# Altium footprint library axsem_connectors_v1-13.PCBLIB: 46 footprints (part 1 of 3)
Each footprint in its own frame and in the unit in brackets; x right, y up, seen from the top. Pads: shape width x height; smd on the part's side, far side on the other; paste and mask are expansions set on the pad; w line width, h text height; cw(c..) or ccw(c..) is an arc to the next point about the centre after c.
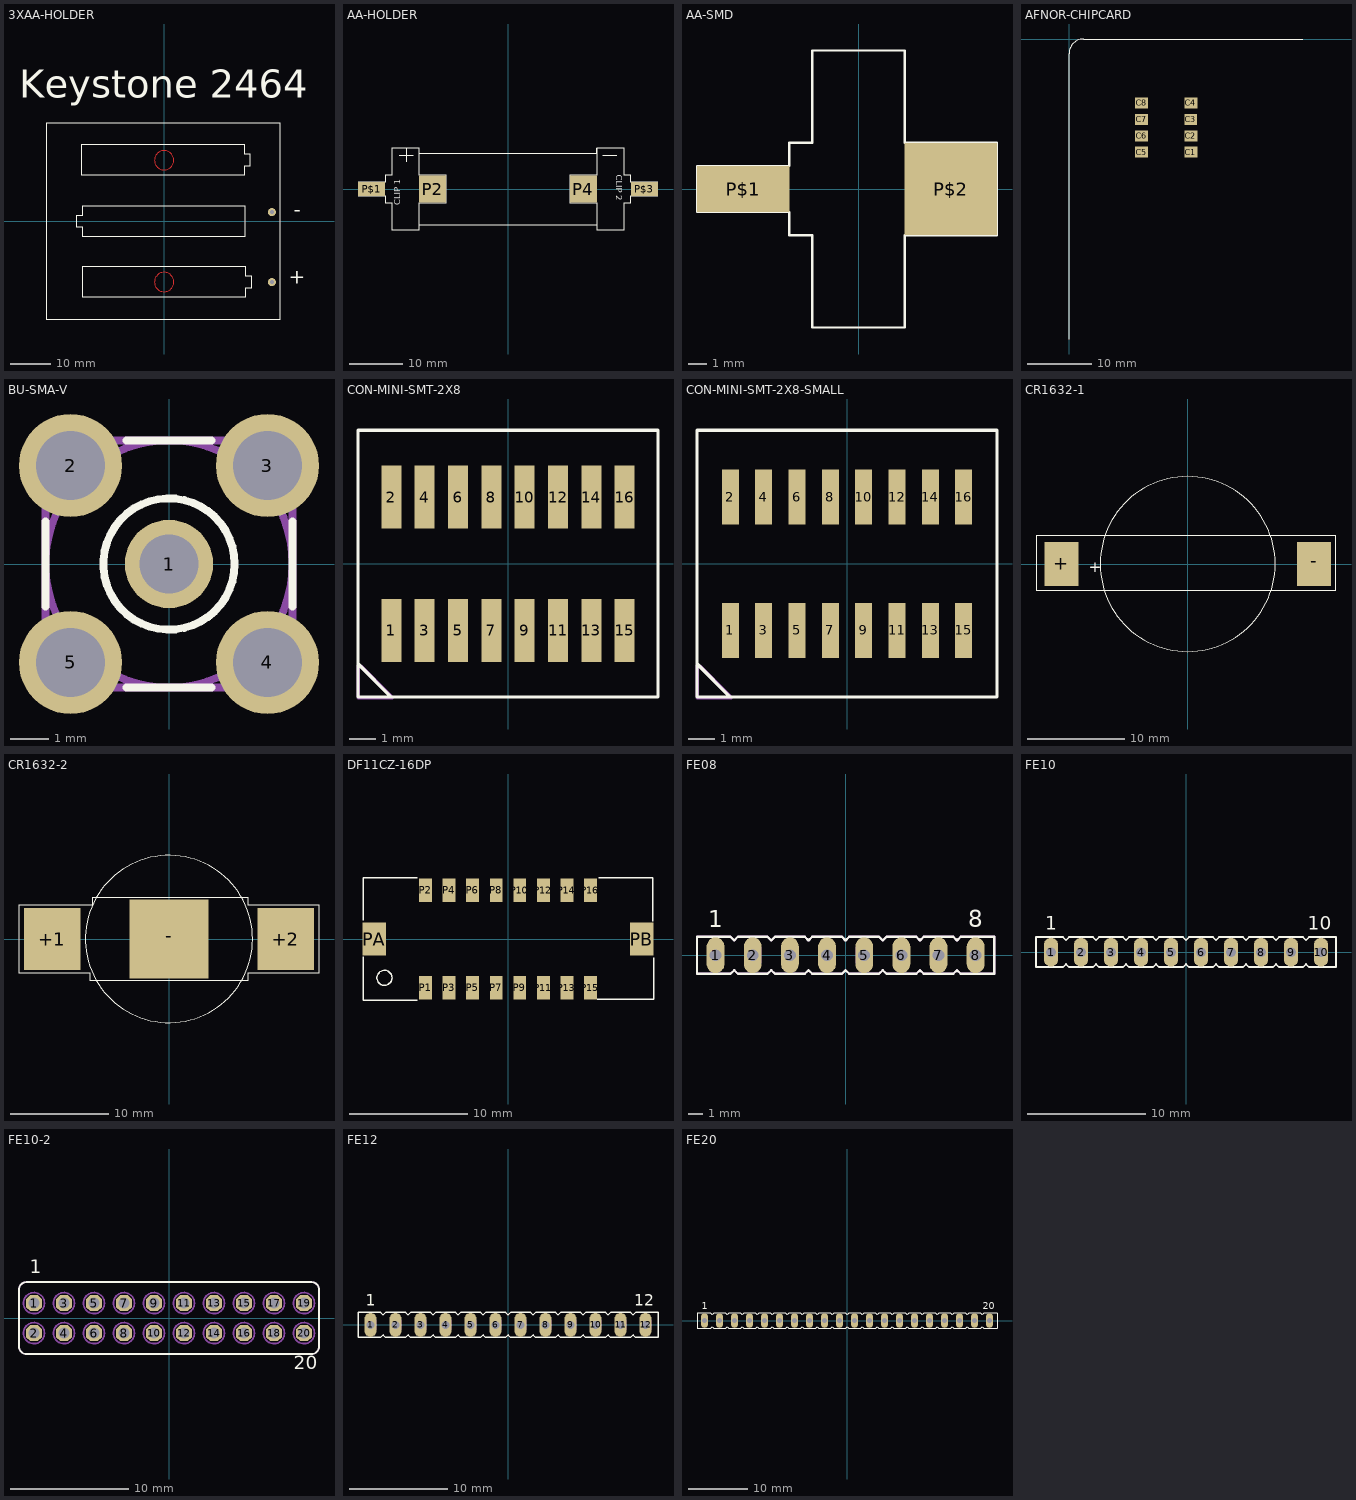
[diagram p0: the footprints below, top view; thin cyan lines are the x and y axes]

## 3XAA-HOLDER [mm]
pads (2):
  round 2 hole 1: GND(26.42,2.225) VDD(26.42,-14.925)
Top Layer:
  circle w0: c0,14.925 r2.37
  circle w0: c0,-14.925 r2.37
Top Overlay:
  lines w0.127: -28.9,-24 28.5,-24 28.5,24 -28.9,24 -28.9,-24 ; -21.4,-1.5 -20,-1.5 -20,-3.8 19.8,-3.8 19.8,3.8 -20,3.8 -20,1.5 -21.4,1.5 -21.4,-1.5 ; -20.2,11.2 -20.2,18.8 19.6,18.8 19.6,16.5 21,16.5 21,13.5 19.6,13.5 19.6,11.2 -20.2,11.2 ; -19.9,-18.7 -19.9,-11.1 19.9,-11.1 19.9,-13.4 21.3,-13.4 21.3,-16.4 19.9,-16.4 19.9,-18.7 -19.9,-18.7
  text "+" at 30.48,-16.51 h6.2
  text "-" at 31.75,0 h6.2
  text "Keystone 2464" at -35.56,27.94 h11.81

## AA-HOLDER [mil]
pads (4):
  rect 200x200 smd: P2(-555.91,0) P4(555.91,0)
  rect 200x100 smd: P$1(-1005.91,0) P$3(1005.91,0)
Top Overlay:
  circle w5: c-1055.91,0 r25
  circle w5: c-505.91,0 r45
  circle w5: c1055.91,0 r25
  circle w5: c505.91,0 r45
  lines w5: -800,250 -700,250 ; -750,200 -750,300 ; -657.48,-263.78 657.48,-263.78 ; -653.54,263.78 653.54,263.78 653.54,299.21 ; 700,250 800,250 ; -750,300 -655.91,300 -655.91,100 -455.91,100 -455.91,-100 -655.91,-100 -655.91,-300 -855.91,-300 -855.91,-100 -905.91,-100 -905.91,-50 -1105.91,-50 -1105.91,50 -905.91,50 -905.91,100 -855.91,100 -855.91,300 -750,300 ; 455.91,-100 655.91,-100 655.91,-300 855.91,-300 855.91,-100 905.91,-100 905.91,-50 1105.91,-50 1105.91,50 905.91,50 905.91,100 855.91,100 855.91,300 655.91,300 655.91,100 455.91,100 455.91,-100
  text "CLIP 1" at -779.53,-118.11 h77.5
  text "CLIP 2" at 783.46,106.3 h77.5

## AA-SMD [mil]
pads (2):
  rect 200x100 smd: P$1(-250,0)
  rect 200x200 smd: P$2(200,0)
Top Overlay:
  circle w5: c-300,0 r25
  circle w5: c250,0 r45
  lines w5: -350,-50 -350,50 -150,50 -150,100 -100,100 -100,300 100,300 100,100 300,100 300,-100 100,-100 100,-300 -100,-300 -100,-100 -150,-100 -150,-50 -350,-50

## AFNOR-CHIPCARD [mm]
pads (8):
  rect 2x1.7 smd: C1(18.872,-17.541) C2(18.871,-15) C3(18.868,-12.457) C4(18.871,-9.92) C5(11.251,-17.542) C6(11.252,-15) C7(11.25,-12.459) C8(11.252,-9.92)
Top Overlay:
  lines w0: 0,-46.5 0,-2.25 cw(c2.25,-2.25) 2.25,0 36.25,0

## BU-SMA-V [mil]
pads (5):
  round 90 hole 60: 1(0,0)
  round 105 hole 70: 2(-100.39,100.39) 3(100.39,100.39) 4(100.39,-100.39) 5(-100.39,-100.39)
Top Overlay:
  circle w8: c0,0 r66.93
  lines w8: -125.98,-43.31 -125.98,43.31 ; -43.31,-125.98 43.31,-125.98 ; -43.31,125.98 43.31,125.98 ; 125.98,-43.31 125.98,43.31
Mechanical 16:
  circle w8: c0,0 r125.98
  lines w8: -125.98,-125.98 125.98,-125.98 125.98,125.98 -125.98,125.98 -125.98,-125.98

## CON-MINI-SMT-2X8 [mil]
pads (16):
  rect 29.92x94.49 smd: 1(-175,-100) 2(-175,100) 3(-125,-100) 4(-125,100) 5(-75,-100) 6(-75,100) 7(-25,-100) 8(-25,100) 9(25,-100) 10(25,100) 11(75,-100) 12(75,100) 13(125,-100) 14(125,100) 15(175,-100) 16(175,100)
Top Overlay:
  lines w5: -225,-150 -225,200 225,200 225,-200 -175,-200 ; -225,-150 -225,-200 -175,-200 ; -225,-150 -175,-200
Mechanical 16:
  lines w5: -224.41,-200.79 -173.23,-200.79 -220.47,-153.54 -224.41,-153.54 -224.41,-200.79

## CON-MINI-SMT-2X8-SMALL [mm]
pads (16):
  rect 0.65x2.1 smd: 1(-4.445,-2.54) 2(-4.445,2.54) 3(-3.175,-2.54) 4(-3.175,2.54) 5(-1.905,-2.54) 6(-1.905,2.54) 7(-0.635,-2.54) 8(-0.635,2.54) 9(0.635,-2.54) 10(0.635,2.54) 11(1.905,-2.54) 12(1.905,2.54) 13(3.175,-2.54) 14(3.175,2.54) 15(4.445,-2.54) 16(4.445,2.54)
Top Overlay:
  lines w0.127: -5.715,-3.81 -5.715,5.08 5.715,5.08 5.715,-5.08 -4.445,-5.08 ; -5.715,-3.81 -5.715,-5.08 -4.445,-5.08 ; -5.715,-3.81 -4.445,-5.08
Mechanical 16:
  lines w0.127: -5.7,-5.1 -4.4,-5.1 -5.6,-3.9 -5.7,-3.9 -5.7,-5.1

## CR1632 [mil]

## CR1632-1 [mil]
pads (2):
  rect 137.8x177.17 smd: +(-511.81,0) -(511.81,0)
Top Overlay:
  circle w5: c0,0 r354.33
  lines w5: -614.17,-106.3 -614.17,114.17 598.43,114.17 598.43,-106.3 -614.17,-106.3
  text "+" at -400,-50 h77.5

## CR1632-2 [mm]
pads (3):
  rect 5.75x6.3 smd: +1(-11.87,0) +2(11.87,0)
  rect 8x8 smd: -(0,0)
Top Overlay:
  circle w0.127: c0,0 r8.5
  lines w0.127: -15.25,-3.5 -8,-3.5 -8,-4.25 8,-4.25 8,-3.5 15.25,-3.5 15.25,3.5 8,3.5 8,4.25 -7.75,4.25 -7.75,3.5 -15.25,3.5 -15.25,-3.5

## DF11CZ-16DP [mm]
pads (18):
  rect 1.1x2 smd: P1(-7,-4.15) P2(-7,4.15) P3(-5,-4.15) P4(-5,4.15) P5(-3,-4.15) P6(-3,4.15) P7(-1,-4.15) P8(-1,4.15) P9(1,-4.15) P10(1,4.15) P11(3,-4.15) P12(3,4.15) P13(5,-4.15) P14(5,4.15) P15(7,-4.15) P16(7,4.15)
  rect 2x2.8 smd: PA(-11.35,0) PB(11.35,0)
Top Overlay:
  circle w0.127: c-10.5,-3.3 r0.64
  lines w0.127: -12.3,-1.5 -12.3,-5.2 -7.7,-5.2 ; -12.3,1.6 -12.3,5.2 -7.7,5.2 ; 7.6,-5.1 12.4,-5.1 12.4,-1.6 ; 7.7,5.2 12.3,5.2 12.3,1.5

## FE08 [mil]
pads (8):
  oval 48x96 hole 32: 1(-350,0) 2(-250,0) 3(-150,0) 4(-50,0) 5(50,0) 6(150,0) 7(250,0) 8(350,0)
Top Overlay:
  lines w6: -400,-50 -400,50 -310,50 -300,40 -290,50 -210,50 -200,40 -190,50 -110,50 -100,40 -90,50 -10,50 0,40 10,50 90,50 100,40 110,50 190,50 200,40 210,50 290,50 300,40 310,50 400,50 400,-50 310,-50 300,-40 290,-50 210,-50 200,-40 190,-50 110,-50 100,-40 90,-50 10,-50 0,-40 -10,-50 -90,-50 -100,-40 -110,-50 -190,-50 -200,-40 -210,-50 -290,-50 -300,-40 -310,-50 -400,-50
  text "1" at -370,60 h77.5
  text "8" at 330,60 h77.5
Mechanical 16:
  drawing of 158 lines, arcs and shapes, not listed
  text "1" at -370,60 h77.5
  text "8" at 330,60 h77.5

## FE10 [mil]
pads (10):
  oval 48x96 hole 32: 1(-450,0) 2(-350,0) 3(-250,0) 4(-150,0) 5(-50,0) 6(50,0) 7(150,0) 8(250,0) 9(350,0) 10(450,0)
Top Overlay:
  lines w6: -500,-50 -500,50 -410,50 -400,40 -390,50 -310,50 -300,40 -290,50 -210,50 -200,40 -190,50 -110,50 -100,40 -90,50 -10,50 0,40 10,50 90,50 100,40 110,50 190,50 200,40 210,50 290,50 300,40 310,50 390,50 400,40 410,50 500,50 500,-50 410,-50 400,-40 390,-50 310,-50 300,-40 290,-50 210,-50 200,-40 190,-50 110,-50 100,-40 90,-50 10,-50 0,-40 -10,-50 -90,-50 -100,-40 -110,-50 -190,-50 -200,-40 -210,-50 -290,-50 -300,-40 -310,-50 -390,-50 -400,-40 -410,-50 -500,-50
  text "1" at -470,60 h77.5
  text "10" at 405,60 h77.5
Mechanical 16:
  rectangle: -455,10 -445,30
  rectangle: -455,-30 -445,-10
  rectangle: -355,10 -345,30
  rectangle: -355,-30 -345,-10
  rectangle: -255,10 -245,30
  rectangle: -255,-30 -245,-10
  rectangle: -155,10 -145,30
  rectangle: -155,-30 -145,-10
  rectangle: -55,10 -45,30
  rectangle: -55,-30 -45,-10
  rectangle: 45,10 55,30
  rectangle: 45,-30 55,-10
  rectangle: 145,10 155,30
  rectangle: 145,-30 155,-10
  rectangle: 245,10 255,30
  rectangle: 245,-30 255,-10
  rectangle: 345,10 355,30
  rectangle: 345,-30 355,-10
  rectangle: 445,10 455,30
  rectangle: 445,-30 455,-10
  lines w6: -470,-20 -470,20 -460,20 -460,30 -440,30 -440,20 -430,20 -430,-20 -440,-20 -440,-30 -460,-30 -460,-20 -470,-20 ; -370,-20 -370,20 -360,20 -360,30 -340,30 -340,20 -330,20 -330,-20 -340,-20 -340,-30 -360,-30 -360,-20 -370,-20 ; -270,-20 -270,20 -260,20 -260,30 -240,30 -240,20 -230,20 -230,-20 -240,-20 -240,-30 -260,-30 -260,-20 -270,-20 ; -170,-20 -170,20 -160,20 -160,30 -140,30 -140,20 -130,20 -130,-20 -140,-20 -140,-30 -160,-30 -160,-20 -170,-20 ; -70,-20 -70,20 -60,20 -60,30 -40,30 -40,20 -30,20 -30,-20 -40,-20 -40,-30 -60,-30 -60,-20 -70,-20 ; 30,-20 30,20 40,20 40,30 60,30 60,20 70,20 70,-20 60,-20 60,-30 40,-30 40,-20 30,-20 ; 130,-20 130,20 140,20 140,30 160,30 160,20 170,20 170,-20 160,-20 160,-30 140,-30 140,-20 130,-20 ; 230,-20 230,20 240,20 240,30 260,30 260,20 270,20 270,-20 260,-20 260,-30 240,-30 240,-20 230,-20 ; 330,-20 330,20 340,20 340,30 360,30 360,20 370,20 370,-20 360,-20 360,-30 340,-30 340,-20 330,-20 ; 430,-20 430,20 440,20 440,30 460,30 460,20 470,20 470,-20 460,-20 460,-30 440,-30 440,-20 430,-20

## FE10-2 [mil]
pads (20):
  oct 54x54 hole 36: 1(-450,50) 2(-450,-50) 3(-350,50) 4(-350,-50) 5(-250,50) 6(-250,-50) 7(-150,50) 8(-150,-50) 9(-50,50) 10(-50,-50) 11(50,50) 12(50,-50) 13(150,50) 14(150,-50) 15(250,50) 16(250,-50) 17(350,50) 18(350,-50) 19(450,50) 20(450,-50)
Top Overlay:
  lines w6: -500,-95 -500,95 cw(c-475,95) -475,120 475,120 cw(c475,95) 500,95 500,-95 cw(c475,-95) 475,-120 -475,-120 cw(c-475,-95) -500,-95
  text "1" at -465,135 h77.5
  text "20" at 415,-185 h77.5
Mechanical 16:
  circle w16: c-450,-50 r5
  circle w16: c-450,50 r5
  circle w16: c-350,-50 r5
  circle w16: c-350,50 r5
  circle w16: c-250,-50 r5
  circle w16: c-250,50 r5
  circle w16: c-150,-50 r5
  circle w16: c-150,50 r5
  circle w16: c-50,-50 r5
  circle w16: c-50,50 r5
  circle w6: c-450,-50 r35
  circle w6: c-450,50 r35
  circle w6: c-350,50 r35
  circle w6: c-250,50 r35
  circle w6: c-150,50 r35
  circle w6: c-50,50 r35
  circle w6: c-350,-50 r35
  circle w6: c-250,-50 r35
  circle w6: c-150,-50 r35
  circle w6: c-50,-50 r35
  circle w16: c50,-50 r5
  circle w16: c50,50 r5
  circle w16: c150,-50 r5
  circle w16: c150,50 r5
  circle w16: c250,-50 r5
  circle w16: c250,50 r5
  circle w16: c350,-50 r5
  circle w16: c350,50 r5
  circle w16: c450,-50 r5
  circle w16: c450,50 r5
  circle w6: c50,-50 r35
  circle w6: c50,50 r35
  circle w6: c150,50 r35
  circle w6: c250,50 r35
  circle w6: c350,50 r35
  circle w6: c450,50 r35
  circle w6: c150,-50 r35
  circle w6: c250,-50 r35
  circle w6: c350,-50 r35
  circle w6: c450,-50 r35
  lines w6: -500,-95 -500,95 cw(c-475,95) -475,120 475,120 cw(c475,95) 500,95 500,-95 cw(c475,-95) 475,-120 -475,-120 cw(c-475,-95) -500,-95
  text "1" at -465,135 h77.5
  text "20" at 415,-185 h77.5

## FE12 [mil]
pads (12):
  oval 48x96 hole 32: 1(-550,0) 2(-450,0) 3(-350,0) 4(-250,0) 5(-150,0) 6(-50,0) 7(50,0) 8(150,0) 9(250,0) 10(350,0) 11(450,0) 12(550,0)
Top Overlay:
  lines w6: -600,-50 -600,50 -510,50 -500,40 -490,50 -410,50 -400,40 -390,50 -310,50 -300,40 -290,50 -210,50 -200,40 -190,50 -110,50 -100,40 -90,50 -10,50 0,40 10,50 90,50 100,40 110,50 190,50 200,40 210,50 290,50 300,40 310,50 390,50 400,40 410,50 490,50 500,40 510,50 600,50 600,-50 510,-50 500,-40 490,-50 410,-50 400,-40 390,-50 310,-50 300,-40 290,-50 210,-50 200,-40 190,-50 110,-50 100,-40 90,-50 10,-50 0,-40 -10,-50 -90,-50 -100,-40 -110,-50 -190,-50 -200,-40 -210,-50 -290,-50 -300,-40 -310,-50 -390,-50 -400,-40 -410,-50 -490,-50 -500,-40 -510,-50 -600,-50
  text "1" at -570,60 h77.5
  text "12" at 505,60 h77.5
Mechanical 16:
  drawing of 168 lines, arcs and shapes, not listed

## FE20 [mil]
pads (20):
  oval 48x96 hole 32: 1(-950,0) 2(-850,0) 3(-750,0) 4(-650,0) 5(-550,0) 6(-450,0) 7(-350,0) 8(-250,0) 9(-150,0) 10(-50,0) 11(50,0) 12(150,0) 13(250,0) 14(350,0) 15(450,0) 16(550,0) 17(650,0) 18(750,0) 19(850,0) 20(950,0)
Top Overlay:
  lines w6: -1000,-50 -1000,50 -910,50 -900,40 -890,50 -810,50 -800,40 -790,50 -710,50 -700,40 -690,50 -610,50 -600,40 -590,50 -510,50 -500,40 -490,50 -410,50 -400,40 -390,50 -310,50 -300,40 -290,50 -210,50 -200,40 -190,50 -110,50 -100,40 -90,50 -10,50 0,40 10,50 90,50 100,40 110,50 190,50 200,40 210,50 290,50 300,40 310,50 390,50 400,40 410,50 490,50 500,40 510,50 590,50 600,40 610,50 690,50 700,40 710,50 790,50 800,40 810,50 890,50 900,40 910,50 1000,50 1000,-50 910,-50 900,-40 890,-50 810,-50 800,-40 790,-50 710,-50 700,-40 690,-50 610,-50 600,-40 590,-50 510,-50 500,-40 490,-50 410,-50 400,-40 390,-50 310,-50 300,-40 290,-50 210,-50 200,-40 190,-50 110,-50 100,-40 90,-50 10,-50 0,-40 -10,-50 -90,-50 -100,-40 -110,-50 -190,-50 -200,-40 -210,-50 -290,-50 -300,-40 -310,-50 -390,-50 -400,-40 -410,-50 -490,-50 -500,-40 -510,-50 -590,-50 -600,-40 -610,-50 -690,-50 -700,-40 -710,-50 -790,-50 -800,-40 -810,-50 -890,-50 -900,-40 -910,-50 -1000,-50
  text "1" at -970,60 h77.5
  text "20" at 905,60 h77.5
Mechanical 16:
  drawing of 280 lines, arcs and shapes, not listed